# Altium schematic symbol library diode.SchLib: 5 symbols
Pins are listed as number, name and electrical type; pins without a type are passive.

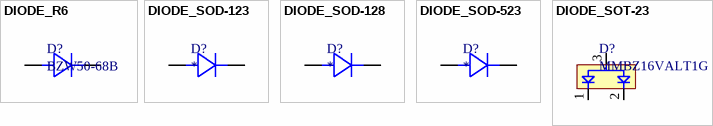
[diagram p0: symbols DIODE_R6 to DIODE_SOT-23]

## DIODE_R6
designator D?, comment BZW50-68B
TVS DIODE 68V 157V R-6; Manufacturer 1: STMicroelectronics; Manufacturer Part Number 1: BZW50-68B; Supplier 1: Digi-Key; Supplier Part Number 1: 497-12763-1-ND
footprint R6
pins: 1, 2

## DIODE_SOD-123
designator D?
Manufacturer Part Number 1: *; Manufacturer 1: *; Supplier 1: *; Supplier Part Number 1: *
footprint SOD-123
pins: A, C

## DIODE_SOD-128
designator D?
Manufacturer Part Number 1: *; Manufacturer 1: *; Supplier 1: *; Supplier Part Number 1: *
footprint SOD-128
pins: 1, 2

## DIODE_SOD-523
designator D?
Manufacturer Part Number 1: *; Manufacturer 1: *; Supplier 1: *; Supplier Part Number 1: *
footprint SOD-523
pins: 1, 2

## DIODE_SOT-23
designator D?, comment MMBZ16VALT1G
DIODE ZENER 16V SOT23-3; Manufacturer 1: ON Semiconductor; Manufacturer Part Number 1: MMBZ16VALT1G; Supplier 1: Digi-Key; Supplier Part Number 1: MMBZ16VALT1GOSCT-ND
footprint SOT23-3
pins: 1, 2, 3